# Altium footprint library MotorController.PcbLib: 4 footprints
Each footprint in its own frame and in the unit in brackets; x right, y up, seen from the top. Pads: shape width x height; smd on the part's side, far side on the other; paste and mask are expansions set on the pad; w line width, h text height; cw(c..) or ccw(c..) is an arc to the next point about the centre after c.
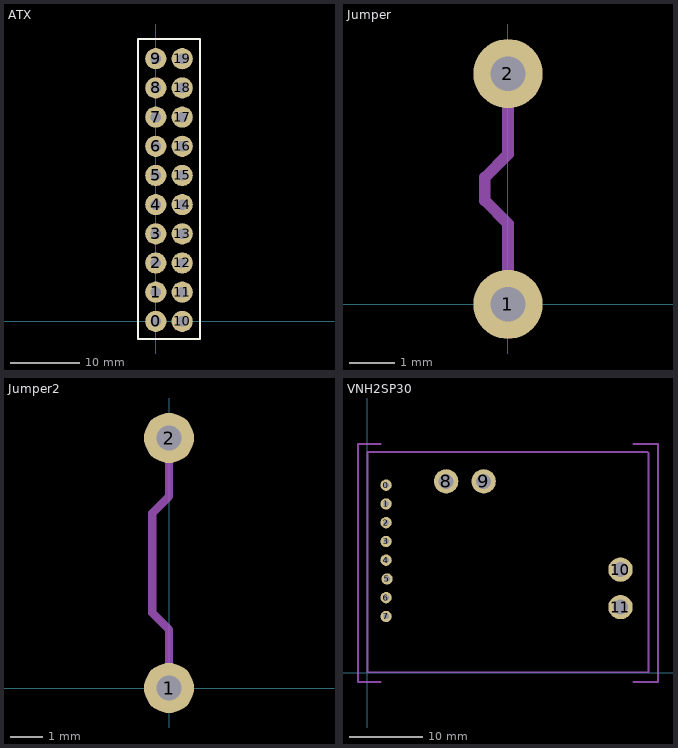
[diagram p0: the footprints below, top view; thin cyan lines are the x and y axes]

## ATX [mil]
pads (20):
  round 120 hole 59.06: 0(0,0) 1(0,165.35) 2(0,330.71) 3(0,496.06) 4(0,661.42) 5(0,826.77) 6(0,992.13) 7(0,1157.48) 8(0,1322.83) 9(0,1488.19) 10(150,0) 11(150,165.35) 12(150,330.71) 13(150,496.06) 14(150,661.42) 15(150,826.77) 16(150,992.13) 17(150,1157.48) 18(150,1322.83) 19(150,1488.19)
Top Overlay:
  lines w10: -100,-100 250,-100 250,1600 -100,1600 -100,-100

## Jumper [mil]
pads (2):
  round 60 hole 30: 1(0,0) 2(0,200)
Mechanical 1:
  lines w10: 0,0 0,70 -20,90 -20,110 0,130 0,200

## Jumper2 [mil]
pads (2):
  round 60 hole 30: 1(0,0) 2(0,300)
Mechanical 1:
  lines w10: 0,0 0,70 -20,90 -20,210 0,230 0,300

## VNH2SP30 [mil] "Motor Controller, H-Bridge, USST"
pads (12):
  round 60 hole 30: 0(100,1000) 1(100,900) 2(100,800) 3(100,700) 4(100,600) 5(105,500) 6(100,400) 7(100,300)
  round 130 hole 80: 8(420,1020) 9(620,1020) 10(1350,550) 11(1350,350)
Mechanical 1:
  lines w10: -30,1220 10,1220 ; 70,-50 -50,-50 -50,1220 70,1220 ; 1420,-50 1550,-50 1550,1220 1420,1220 ; 0,2.5 0,1177.5 1492.5,1177.5 1500,1170 1500,2.5 0,2.5